# EAGLE library part CON-HTST-105-04 (library BreakoutBoard)
2x5 pin Through-hole .025" SQ Post Header Source: Datasheet <http://media.digikey.com/PDF/Data%20Sheets/Samtec/TSS,TST,HTSS,HTST,ZSS,ZST_Series.pdf>
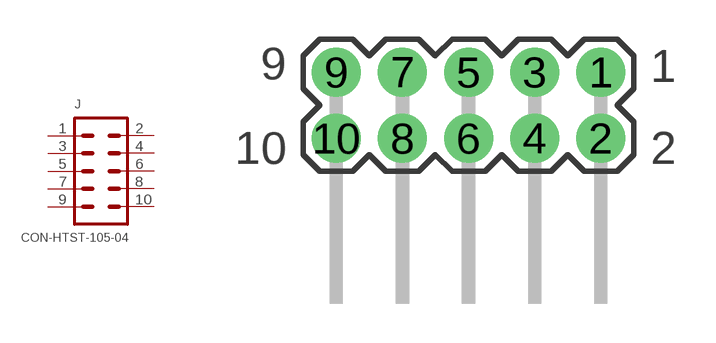
[diagram p16: symbol with the pads of HTST-105-04-D-RA; footprint HTST-105-04-D-RA]

Designator prefix J

## CON-HTST-105-04-D-RA  [HTST-105-04-D-RA]
1  1  pas
2  2  pas
3  3  pas
4  4  pas
5  5  pas
6  6  pas
7  7  pas
8  8  pas
9  9  pas
10  10  pas

## Footprint HTST-105-04-D-RA (pad centres in mm)
Through-hole .025" SQ Post Header Right Angle Source: Datasheet <http://media.digikey.com/PDF/Data%20Sheets/Samtec/TSS,TST,HTSS,HTST,ZSS,ZST_Series.pdf>
drill 1.016 pad 1.88: 1 5.08,2.54; 2 5.08,0; 3 2.54,2.54; 4 2.54,0; 5 0,2.54; 6 0,0; 7 -2.54,2.54; 8 -2.54,0; 9 -5.08,2.54; 10 -5.08,0